# Altium schematic symbol library devkits.SchLib: 9 symbols
Pins are listed as number, name and electrical type; pins without a type are passive.

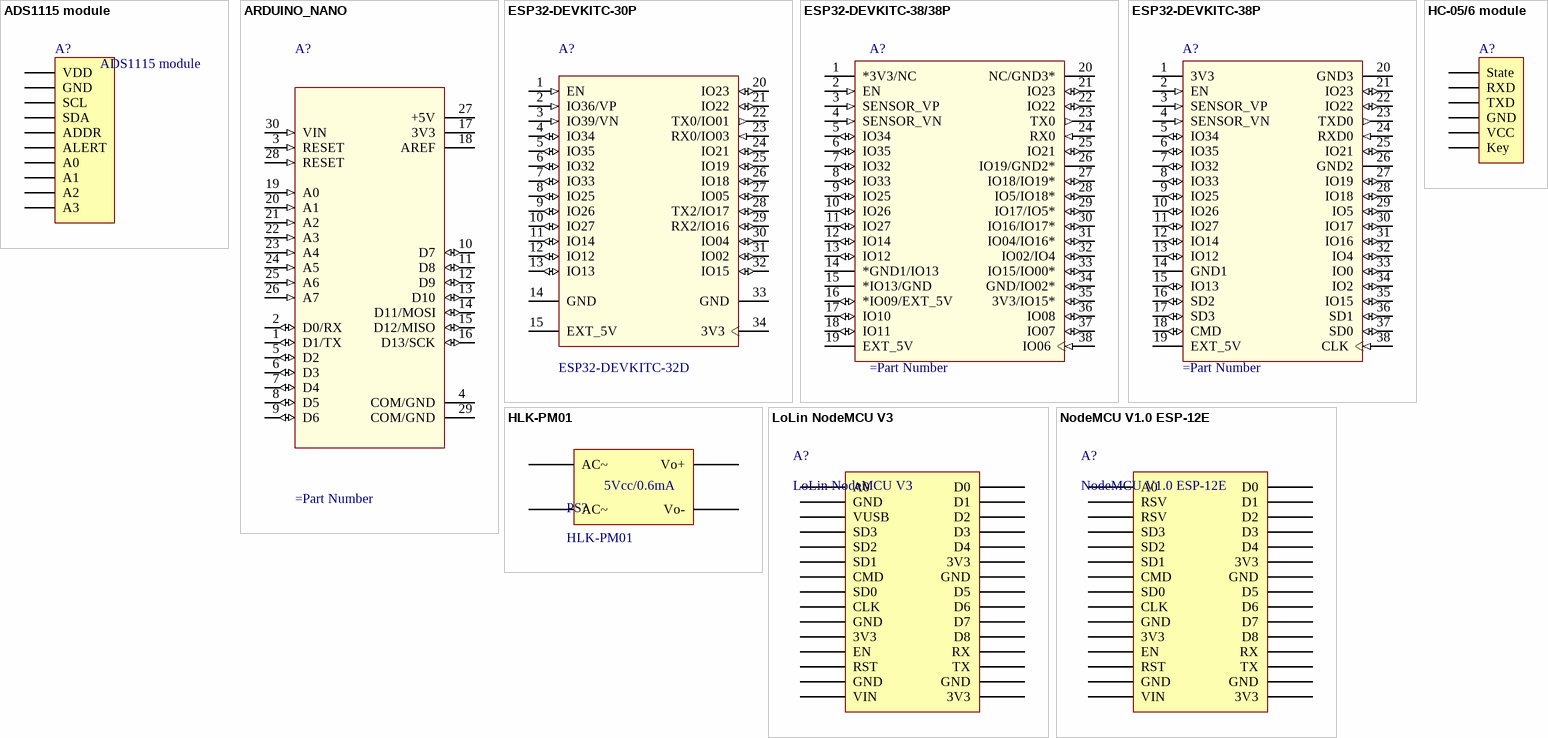
[diagram p0: symbols ADS1115 module to NodeMCU V1.0 ESP-12E]

## ADS1115 module
designator A?
16Bit I2C ADC+PGA; Vendor: Adafruit; Part Number: ADS1115 module
footprint ADS1115 Module - horizontal (16Bit I2C ADC+PGA)
footprint ADS1115 Module - vertical (16Bit I2C ADC+PGA)
pins: 1 VDD, 2 GND, 3 SCL, 4 SDA, 5 ADDR, 6 ALERT, 7 A0, 8 A1, 9 A2, 10 A3

## ARDUINO_NANO
designator A?
Dev.kit: Arduino; UART; ICSP, USB B mini, pin strips; MP: ARDUINO NANO; Package: None; Availability: Unavailable; Price: None; SnapEDA_Link: https://www.snapeda.com/parts/ARDUINO%20NANO/Arduino/view-part/?ref=snap; MF: Arduino; Value: *
footprint ARDUINO_NANO_SHIELD
pins: 1 D1/TX (io), 2 D0/RX (io), 3 RESET (in), 4 COM/GND (power), 5 D2 (io), 6 D3 (io), 7 D4 (io), 8 D5 (io), 9 D6 (io), 10 D7 (io), 11 D8 (io), 12 D9 (io), 13 D10 (io), 14 D11/MOSI (io), 15 D12/MISO (io), 16 D13/SCK (io), 17 3V3 (power), 18 AREF (power), 19 A0 (in), 20 A1 (in), 21 A2 (in), 22 A3 (in), 23 A4 (in), 24 A5 (in), 25 A6 (in), 26 A7 (in), 27 +5V (power), 28 RESET (in), 29 COM/GND (power), 30 VIN (in)

## ESP32-DEVKITC-30P
designator A?, comment ESP32-DEVKITC-32D
EVAL BOARD FOR ESP-WROOM-32; MF: Espressif Systems; Part Number: ESP32-DEVKITC-32D; SnapEDA_Link: https://www.snapeda.com/parts/ESP32-DEVKITC-32D/Espressif%20Systems/view-part/?ref=snap; Digi-Key_Part_Number: 1965-1000-ND; Digi-Key_Purchase_URL: https://www.digikey.tw/product-detail/en/espressif-systems/ESP32-DEVKITC-32D/1965-1000-ND/9356990?utm_source=snapeda&utm_medium=aggregator&utm_campaign=symbol; Package: None; Value: *
footprint MODULE_ESP32-DEVKITC-30P
pins: 1 EN (in), 2 IO36/VP (in), 3 IO39/VN (in), 4 IO34 (io), 5 IO35 (io), 6 IO32 (io), 7 IO33 (io), 8 IO25 (io), 9 IO26 (io), 10 IO27 (io), 11 IO14 (io), 12 IO12 (io), 13 IO13 (io), 14 GND (power), 15 EXT_5V (power), 20 IO23 (io), 21 IO22 (io), 22 TX0/IO01 (out), 23 RX0/IO03 (in), 24 IO21 (io), 25 IO19 (io), 26 IO18 (io), 27 IO05 (io), 28 TX2/IO17 (io), 29 RX2/IO16 (io), 30 IO04 (io), 31 IO02 (io), 32 IO15 (io), 33 GND (power), 34 3V3 (power)

## ESP32-DEVKITC-38/38P
designator A?
EVAL BOARD FOR ESP-WROOM-32; MP: ESP32-DEVKITC-32D; MF: Espressif Systems; SnapEDA_Link: https://www.snapeda.com/parts/ESP32-DEVKITC-32D/Espressif%20Systems/view-part/?ref=snap; Digi-Key_Part_Number: 1965-1000-ND; Digi-Key_Purchase_URL: https://www.digikey.tw/product-detail/en/espressif-systems/ESP32-DEVKITC-32D/1965-1000-ND/9356990?utm_source=snapeda&utm_medium=aggregator&utm_campaign=symbol; Package: None; Value: *
footprint MODULE_ESP32-DEVKITC-38P
pins: 1 *3V3/NC (power), 2 EN (in), 3 SENSOR_VP (in), 4 SENSOR_VN (in), 5 IO34 (io), 6 IO35 (io), 7 IO32 (io), 8 IO33 (io), 9 IO25 (io), 10 IO26 (io), 11 IO27 (io), 12 IO14 (io), 13 IO12 (io), 14 *GND1/IO13 (power), 15 *IO13/GND, 16 *IO09/EXT_5V (io), 17 IO10 (io), 18 IO11 (io), 19 EXT_5V (power), 20 NC/GND3* (power), 21 IO23 (io), 22 IO22 (io), 23 TX0 (out), 24 RX0 (in), 25 IO21 (io), 26 IO19/GND2* (power), 27 IO18/IO19* (io), 28 IO5/IO18* (io), 29 IO17/IO5* (io), 30 IO16/IO17* (io), 31 IO04/IO16* (io), 32 IO02/IO4 (io), 33 IO15/IO00* (io), 34 GND/IO02* (io), 35 3V3/IO15* (io), 36 IO08 (io), 37 IO07 (io), 38 IO06 (in)

## ESP32-DEVKITC-38P
designator A?
EVAL BOARD FOR ESP-WROOM-32; MP: ESP32-DEVKITC-32D; MF: Espressif Systems; SnapEDA_Link: https://www.snapeda.com/parts/ESP32-DEVKITC-32D/Espressif%20Systems/view-part/?ref=snap; Digi-Key_Part_Number: 1965-1000-ND; Digi-Key_Purchase_URL: https://www.digikey.tw/product-detail/en/espressif-systems/ESP32-DEVKITC-32D/1965-1000-ND/9356990?utm_source=snapeda&utm_medium=aggregator&utm_campaign=symbol; Package: None; Value: *
footprint MODULE_ESP32-DEVKITC-38P
pins: 1 3V3 (power), 2 EN (in), 3 SENSOR_VP (in), 4 SENSOR_VN (in), 5 IO34 (io), 6 IO35 (io), 7 IO32 (io), 8 IO33 (io), 9 IO25 (io), 10 IO26 (io), 11 IO27 (io), 12 IO14 (io), 13 IO12 (io), 14 GND1 (power), 15 IO13 (io), 16 SD2 (io), 17 SD3 (io), 18 CMD (io), 19 EXT_5V (power), 20 GND3 (power), 21 IO23 (io), 22 IO22 (io), 23 TXD0 (out), 24 RXD0 (in), 25 IO21 (io), 26 GND2 (power), 27 IO19 (io), 28 IO18 (io), 29 IO5 (io), 30 IO17 (io), 31 IO16 (io), 32 IO4 (io), 33 IO0 (io), 34 IO2 (io), 35 IO15 (io), 36 SD1 (io), 37 SD0 (io), 38 CLK (in)

## HC-05/6 module
designator A?, comment HC-05/6  (value not drawn)
Bluetooth to Serial Port Module; Part Number: HC-05/6
footprint HC-05/6 - upside down (Bluetooth to Serial Port Module)
footprint HC-05/6 - upside up (Bluetooth to Serial Port Module)
footprint HC-05/6 - vertical (Bluetooth to Serial Port Module)
pins: 1 State, 2 RXD, 3 TXD, 4 GND, 5 VCC, 6 Key

## HLK-PM01
designator PS?
Ultra-compact power module 5V/3W; Vendor: Hi-Link; Part Number: HLK-PM01
footprint HLK-PM01
pins: 1 AC~, 2 AC~, 3 Vo+, 4 Vo-
text: 5Vcc/0.6mA

## LoLin NodeMCU V3
designator A?
ESP8266 DevKit; Vendor: Espressif Systems; Part Number: LoLin NodeMCU V3
footprint LoLin NodeMcu V3
footprint LoLin (+ NodeMCU)
pins: 3V3, 3V3, 3V3, A0, CLK, CMD, D0, D1, D2, D3, D4, D5, D6, D7, D8, EN, GND, GND, GND, GND, GND, RST, RX, SD0, SD1, SD2, SD3, TX, VIN, VUSB

## NodeMCU V1.0 ESP-12E
designator A?
ESP8266 DevKit; Vendor: Espressif Systems; Parameter 2: *; Part Number: NodeMCU V1.0 ESP-12E
footprint NodeMCU V1.0 ESP-12E
footprint NodeMCU (+ LoLin)
pins: 3V3, 3V3, 3V3, A0, CLK, CMD, D0, D1, D2, D3, D4, D5, D6, D7, D8, EN, GND, GND, GND, GND, RST, RSV, RSV, RX, SD0, SD1, SD2, SD3, TX, VIN